# Altium schematic symbol library MAX4564EKA+T.SchLib: 1 symbol
Pins are listed as number, name and electrical type; pins without a type are passive.

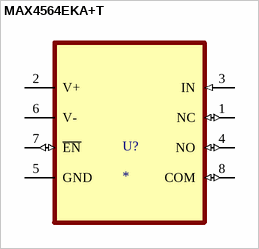
[diagram p0: symbol MAX4564EKA+T]

## MAX4564EKA+T
designator U?
Low-Voltage, Dual-Supply, SPDT Analog Switch with Enable; MF: Analog Devices; MP: MAX4564EKA+T; SnapEDA_Link: https://www.snapeda.com/parts/MAX4564EKA+T/Analog+Devices/view-part/?ref=snap; Package: SOT-8 Maxim; Value: *; Check_prices: https://www.snapeda.com/parts/MAX4564EKA+T/Analog+Devices/view-part/?ref=eda
footprint SOT65P280X145-8N
pins: 1 NC (io), 2 V+ (power), 3 IN (in), 4 NO (io), 5 GND (power), 6 V- (power), 7 ~{EN} (io), 8 COM (io)